# Altium footprint library ssop.PcbLib: 11 footprints
Each footprint in its own frame and in the unit in brackets; x right, y up, seen from the top. Pads: shape width x height; smd on the part's side, far side on the other; paste and mask are expansions set on the pad; w line width, h text height; cw(c..) or ccw(c..) is an arc to the next point about the centre after c.
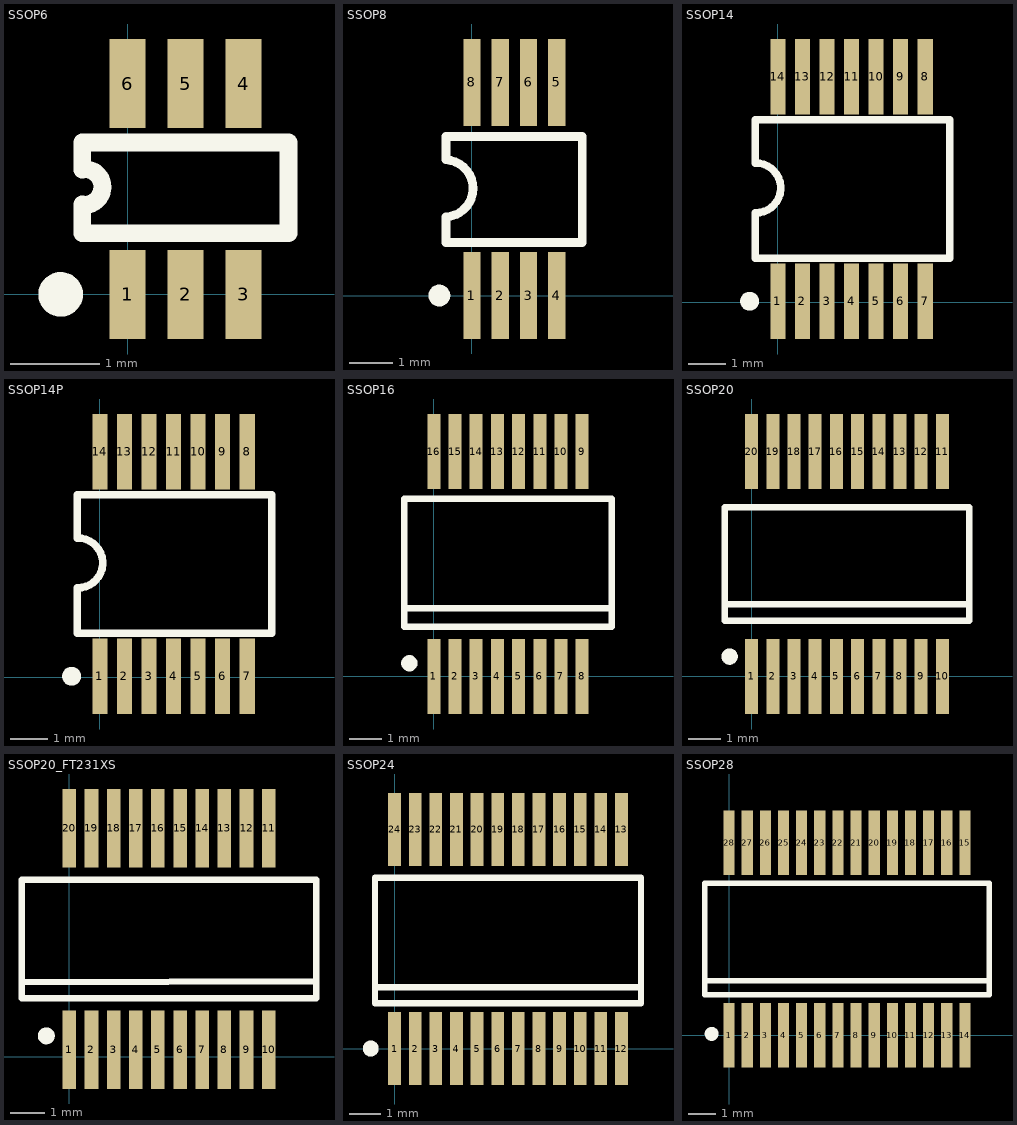
[diagram p0: the footprints below, top view; thin cyan lines are the x and y axes]

## SSOP6 [mm] "6 Pin Shrink Small-Outline Package, pin spacing:0.65mm"
height 1
pads (6):
  rect 0.4x1 smd: 1(0,0) 2(0.65,0) 3(1.3,0) 4(1.3,2.362) 5(0.65,2.362) 6(0,2.362)
Top Overlay:
  circle w0.25: c-0.75,0 r0.125
  lines w0.2: -0.508,1.009 -0.508,0.686 1.803,0.686 1.803,1.702 -0.508,1.702 -0.508,1.397 ; -0.436,1.009 ccw(c-0.482,1.203) -0.432,1.397

## SSOP8 [mm] "8 Pin Shrink Small-Outline Package, pin spacing:0.65mm"
pads (8):
  rect 0.4x2 smd: 1(0,0) 2(0.65,0) 3(1.3,0) 4(1.95,0) 5(1.95,4.902) 6(1.3,4.902) 7(0.65,4.902) 8(0,4.902)
Top Overlay:
  circle w0.25: c-0.75,0 r0.125
  lines w0.2: -0.604,1.808 ccw(c-0.635,2.466) -0.6,3.123 ; -0.6,1.808 -0.6,1.219 2.54,1.219 2.54,3.658 -0.6,3.658 ; -0.6,3.658 -0.6,3.124 -0.6,3.658

## SSOP14 [mm] "14 Pin Shrink Small-Outline Package, pin spacing:0.65mm"
pads (14):
  rect 0.4x2 smd: 1(0,0.025) 2(0.65,0.025) 3(1.3,0.025) 4(1.95,0.025) 5(2.6,0.025) 6(3.25,0.025) 7(3.9,0.025) 8(3.9,5.969) 9(3.25,5.969) 10(2.6,5.969) 11(1.95,5.969) 12(1.3,5.969) 13(0.65,5.969) 14(0,5.969)
Top Overlay:
  circle w0.25: c-0.75,0.025 r0.125
  lines w0.2: -0.6,2.366 -0.6,1.168 4.547,1.168 4.547,4.826 -0.6,4.826 -0.6,3.683 ; -0.584,2.366 ccw(c-0.584,3.025) -0.584,3.683
3D body "User Library-SSOP14-P065.STEP": height 1.73, standoff -0.08, extent -0.55,0.003 4.45,6.003

## SSOP14P [mm] "14 Pin Shrink Small-Outline Package, pin spacing:0.65mm, with Power Pad"
pads (14):
  rect 0.4x2 smd: 1(0,0.025) 2(0.65,0.025) 3(1.3,0.025) 4(1.95,0.025) 5(2.6,0.025) 6(3.25,0.025) 7(3.9,0.025) 8(3.9,5.969) 9(3.25,5.969) 10(2.6,5.969) 11(1.95,5.969) 12(1.3,5.969) 13(0.65,5.969) 14(0,5.969)
Top Overlay:
  circle w0.25: c-0.75,0.025 r0.125
  lines w0.2: -0.6,2.366 -0.6,1.168 4.547,1.168 4.547,4.826 -0.6,4.826 -0.6,3.683 ; -0.584,2.366 ccw(c-0.584,3.025) -0.584,3.683
3D body "User Library-SSOP14P-P065.STEP": height 1.73, standoff -0.08, extent -0.55,0.003 4.45,6.003

## SSOP16 [mm] "SSOP; 16 Leads; Body Width 5.3 mm; Pitch 0.65 mm"
height 2
pads (16):
  rect 0.4x2.3 smd: 1(0,0) 2(0.65,0) 3(1.3,0) 4(1.95,0) 5(2.6,0) 6(3.25,0) 7(3.9,0) 8(4.55,0) 9(4.55,6.9) 10(3.9,6.9) 11(3.25,6.9) 12(2.6,6.9) 13(1.95,6.9) 14(1.3,6.9) 15(0.65,6.9) 16(0,6.9)
Top Overlay:
  circle w0.25: c-0.75,0.406 r0.125
  lines w0.2: -0.9,2.089 5.4,2.089 ; -0.9,1.531 5.45,1.531 5.45,5.45 -0.9,5.45 -0.9,1.531
3D body "SW3dPS-ssop-16 pos.STEP": height 1.99, standoff 0.01, extent -0.9,-0.5 5.424,7.4

## SSOP20 [mm]
height 2
pads (20):
  rect 0.4x2.3 smd: 1(0,0) 2(0.65,0) 3(1.3,0) 4(1.95,0) 5(2.6,0) 6(3.25,0) 7(3.9,0) 8(4.55,0) 9(5.2,0) 10(5.85,0) 11(5.85,6.9) 12(5.2,6.9) 13(4.55,6.9) 14(3.9,6.9) 15(3.25,6.9) 16(2.6,6.9) 17(1.95,6.9) 18(1.3,6.9) 19(0.65,6.9) 20(0,6.9)
Top Overlay:
  circle w0.25: c-0.675,0.61 r0.125
  lines w0.2: -0.825,2.21 6.675,2.21 ; -0.825,1.71 6.675,1.71 6.675,5.19 -0.825,5.19 -0.825,1.71
3D body "SW3dPS-SSOP_20.STEP": height 1.79, standoff -0.05, extent -0.75,-0.5 6.55,7.4

## SSOP20_FT231XS [mm]
height 2
pads (20):
  rect 0.4x2.3 smd: 1(0,0.2) 2(0.65,0.2) 3(1.3,0.2) 4(1.95,0.2) 5(2.6,0.2) 6(3.25,0.2) 7(3.9,0.2) 8(4.55,0.2) 9(5.2,0.2) 10(5.85,0.2) 11(5.85,6.7) 12(5.2,6.7) 13(4.55,6.7) 14(3.9,6.7) 15(3.25,6.7) 16(2.6,6.7) 17(1.95,6.7) 18(1.3,6.7) 19(0.65,6.7) 20(0,6.7)
Top Overlay:
  circle w0.25: c-0.675,0.61 r0.125
  lines w0.2: -1.393,2.18 7.243,2.212 ; -1.393,1.71 -1.393,5.19 7.243,5.19 7.243,1.71 -1.393,1.71
3D body "SW3dPS-SSOP_20.STEP": height 1.79, standoff -0.05, extent -0.75,-0.5 6.55,7.4

## SSOP24 [mm]
pads (24):
  rect 0.4x2.3 smd: 1(0,0) 2(0.65,0) 3(1.3,0) 4(1.95,0) 5(2.6,0) 6(3.25,0) 7(3.9,0) 8(4.55,0) 9(5.2,0) 10(5.85,0) 11(6.5,0) 12(7.15,0) 13(7.15,6.9) 14(6.5,6.9) 15(5.85,6.9) 16(5.2,6.9) 17(4.55,6.9) 18(3.9,6.9) 19(3.25,6.9) 20(2.6,6.9) 21(1.95,6.9) 22(1.3,6.9) 23(0.65,6.9) 24(0,6.9)
Top Overlay:
  circle w0.25: c-0.75,0 r0.125
  lines w0.2: -0.616,1.933 7.766,1.933 ; -0.616,1.425 -0.616,5.375 7.766,5.375 7.766,1.425 -0.616,1.425
3D body "SW3dPS-SSOP-24.STEP": height 1.87, standoff -0.03, extent -0.616,-0.537 7.784,7.363

## SSOP28 [mm]
height 2
pads (28):
  rect 0.4x2.3 smd: 1(0,0) 2(0.65,0) 3(1.3,0) 4(1.95,0) 5(2.6,0) 6(3.25,0) 7(3.9,0) 8(4.55,0) 9(5.2,0) 10(5.85,0) 11(6.5,0) 12(7.15,0) 13(7.8,0) 14(8.45,0) 15(8.45,6.9) 16(7.8,6.9) 17(7.15,6.9) 18(6.5,6.9) 19(5.85,6.9) 20(5.2,6.9) 21(4.55,6.9) 22(3.9,6.9) 23(3.25,6.9) 24(2.6,6.9) 25(1.95,6.9) 26(1.3,6.9) 27(0.65,6.9) 28(0,6.9)
Top Overlay:
  circle w0.25: c-0.625,0.05 r0.125
  lines w0.2: -0.875,1.95 9.325,1.95 ; -0.875,1.45 -0.875,5.45 9.325,5.45 9.325,1.45 -0.875,1.45
3D body "SW3dPS-SSOP-28.STEP": height 1.92, standoff -0.03, extent -1.008,-0.656 9.492,7.569

## SSOP30 [mm]
3D body "SW3dPS-SSOP30-P065.STEP": height 1.02, standoff -0.12, extent -3.06,-2.283 6.79,5.717

## SSOP36-P08 [mm]
3D body "SW3dPS-SSOP36-P08.STEP": height 1.32, standoff -1.11, extent -6.179,-4.781 8.821,7.219